# Altium integrated library Supply_RACM60-12SK_OF_PCB-T.IntLib: 1 symbol
Pins are listed as number, name and electrical type; pins without a type are passive.

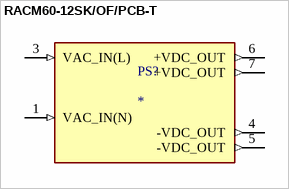
[diagram p0: symbol RACM60-12SK/OF/PCB-T]

## RACM60-12SK/OF/PCB-T
designator PS?
Open Frame AC DC Converters 1 Uitgang 24V 2.5A 80 ~ 264 VAC, 120 ~ 370 VDC Input; MP: RACM60-12SK/OF/PCB-T; Package: None; Price: None; Value: *; Availability: Unavailable
footprint CONV_RACM60-12SK/OF/PCB-T
pins: 1 VAC_IN(N) (in), 3 VAC_IN(L) (in), 4 -VDC_OUT (out), 5 -VDC_OUT (out), 6 +VDC_OUT (out), 7 +VDC_OUT (out)